# Altium integrated library WCAP-ASNP_rev15a.intlib: 55 symbols (part 1 of 2)
Pins are listed as number, name and electrical type; pins without a type are passive.

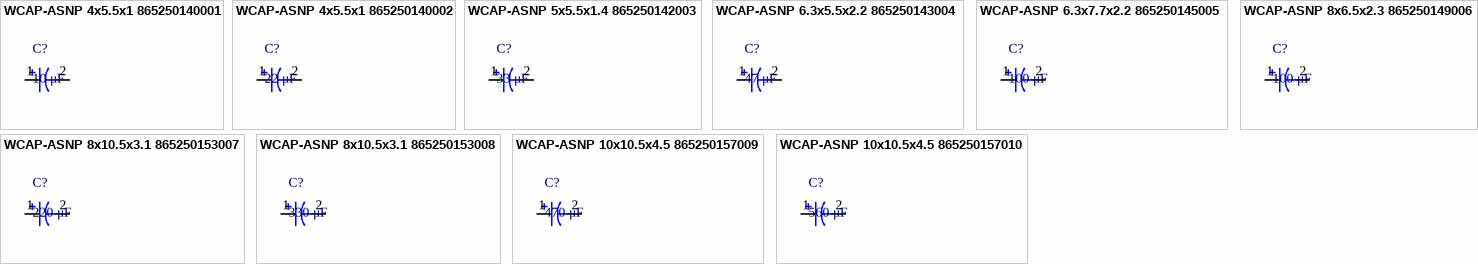
[diagram p0: symbols WCAP-ASNP 4x5.5x1 865250140001 to WCAP-ASNP 10x10.5x4.5 865250157010]

## WCAP-ASNP 4x5.5x1 865250140001
designator C?, comment 10 μF
WCAP-ASNP Aluminum Electrolytic Capacitors , 10 μF; + / - 20%; 6,3 V , 4 x 5,5; Manufacturer: Wurth Elektronik; partNo: 865250140001; E-mail: libraries@we-online.com; Characteristics: Aluminum Electrolytic Capacitor;Recommended soldering: Reflow;Operating temperature: –40 °C to +85 °C;Non-polarized product series with +85 °C max. temperature;Load life: 2000 h @ +85 °C; ComponentLink1Description: Manufacturer; ComponentLink1URL: http://www.we-online.com; ComponentLink2Description: Datasheet; ComponentLink2URL: http://katalog.we-online.de/pbs/datasheet/865250140001.pdf; Created by: Karrer Zheng; Created Date: 5/13/2015; Capacitance: 10 μF; Application: Applied to signal loop with occasional reverse voltage, coupling signal and filtering in circuit. It can be used for signal processing  on TV, audio circuits, digital TV, digital camera, satellite receiver and etc.
footprint WCAP-ASNP 4x5.5x1
pins: 1, 2

## WCAP-ASNP 4x5.5x1 865250140002
designator C?, comment 22 μF
WCAP-ASNP Aluminum Electrolytic Capacitors , 22 μF; + / - 20%; 6,3 V , 4 x 5,5; Manufacturer: Wurth Elektronik; partNo: 865250140002; E-mail: libraries@we-online.com; Characteristics: Aluminum Electrolytic Capacitor;Recommended soldering: Reflow;Operating temperature: –40 °C to +85 °C;Non-polarized product series with +85 °C max. temperature;Load life: 2000 h @ +85 °C; ComponentLink1Description: Manufacturer; ComponentLink1URL: http://www.we-online.com; ComponentLink2Description: Datasheet; ComponentLink2URL: http://katalog.we-online.de/pbs/datasheet/865250140002.pdf; Created by: Karrer Zheng; Created Date: 5/13/2015; Capacitance: 22 μF; Application: Applied to signal loop with occasional reverse voltage, coupling signal and filtering in circuit. It can be used for signal processing  on TV, audio circuits, digital TV, digital camera, satellite receiver and etc.
footprint WCAP-ASNP 4x5.5x1
pins: 1, 2

## WCAP-ASNP 5x5.5x1.4 865250142003
designator C?, comment 33 μF
WCAP-ASNP Aluminum Electrolytic Capacitors , 33 μF; + / - 20%; 6,3 V , 5 x 5,5; Manufacturer: Wurth Elektronik; partNo: 865250142003; E-mail: libraries@we-online.com; Characteristics: Aluminum Electrolytic Capacitor;Recommended soldering: Reflow;Operating temperature: –40 °C to +85 °C;Non-polarized product series with +85 °C max. temperature;Load life: 2000 h @ +85 °C; ComponentLink1Description: Manufacturer; ComponentLink1URL: http://www.we-online.com; ComponentLink2Description: Datasheet; ComponentLink2URL: http://katalog.we-online.de/pbs/datasheet/865250142003.pdf; Created by: Karrer Zheng; Created Date: 5/13/2015; Capacitance: 33 μF; Application: Applied to signal loop with occasional reverse voltage, coupling signal and filtering in circuit. It can be used for signal processing  on TV, audio circuits, digital TV, digital camera, satellite receiver and etc.
footprint WCAP-ASNP 5x5.5x1.4
pins: 1, 2

## WCAP-ASNP 6.3x5.5x2.2 865250143004
designator C?, comment 47 μF
WCAP-ASNP Aluminum Electrolytic Capacitors , 47 μF; + / - 20%; 6,3 V , 6,3 x 5,5; Manufacturer: Wurth Elektronik; partNo: 865250143004; E-mail: libraries@we-online.com; Characteristics: Aluminum Electrolytic Capacitor;Recommended soldering: Reflow;Operating temperature: –40 °C to +85 °C;Non-polarized product series with +85 °C max. temperature;Load life: 2000 h @ +85 °C; ComponentLink1Description: Manufacturer; ComponentLink1URL: http://www.we-online.com; ComponentLink2Description: Datasheet; ComponentLink2URL: http://katalog.we-online.de/pbs/datasheet/865250143004.pdf; Created by: Karrer Zheng; Created Date: 5/13/2015; Capacitance: 47 μF; Application: Applied to signal loop with occasional reverse voltage, coupling signal and filtering in circuit. It can be used for signal processing  on TV, audio circuits, digital TV, digital camera, satellite receiver and etc.
footprint WCAP-ASNP 6.3x5.5x2.2
pins: 1, 2

## WCAP-ASNP 6.3x7.7x2.2 865250145005
designator C?, comment 100 μF
WCAP-ASNP Aluminum Electrolytic Capacitors , 100 μF; + / - 20%; 6,3 V , 6,3 x 7,7; Manufacturer: Wurth Elektronik; partNo: 865250145005; E-mail: libraries@we-online.com; Characteristics: Aluminum Electrolytic Capacitor;Recommended soldering: Reflow;Operating temperature: –40 °C to +85 °C;Non-polarized product series with +85 °C max. temperature;Load life: 2000 h @ +85 °C; ComponentLink1Description: Manufacturer; ComponentLink1URL: http://www.we-online.com; ComponentLink2Description: Datasheet; ComponentLink2URL: http://katalog.we-online.de/pbs/datasheet/865250145005.pdf; Created by: Karrer Zheng; Created Date: 5/13/2015; Capacitance: 100 μF; Application: Applied to signal loop with occasional reverse voltage, coupling signal and filtering in circuit. It can be used for signal processing  on TV, audio circuits, digital TV, digital camera, satellite receiver and etc.
footprint WCAP-ASNP 6.3x7.7x2.2
pins: 1, 2

## WCAP-ASNP 8x6.5x2.3 865250149006
designator C?, comment 100 μF
WCAP-ASNP Aluminum Electrolytic Capacitors , 100 μF; + / - 20%; 6,3 V , 8 x 6,5; Manufacturer: Wurth Elektronik; partNo: 865250149006; E-mail: libraries@we-online.com; Characteristics: Aluminum Electrolytic Capacitor;Recommended soldering: Reflow;Operating temperature: –40 °C to +85 °C;Non-polarized product series with +85 °C max. temperature;Load life: 2000 h @ +85 °C; ComponentLink1Description: Manufacturer; ComponentLink1URL: http://www.we-online.com; ComponentLink2Description: Datasheet; ComponentLink2URL: http://katalog.we-online.de/pbs/datasheet/865250149006.pdf; Created by: Karrer Zheng; Created Date: 5/13/2015; Capacitance: 100 μF; Application: Applied to signal loop with occasional reverse voltage, coupling signal and filtering in circuit. It can be used for signal processing  on TV, audio circuits, digital TV, digital camera, satellite receiver and etc.
footprint WCAP-ASNP 8x6.5x2.3
pins: 1, 2

## WCAP-ASNP 8x10.5x3.1 865250153007
designator C?, comment 220 μF
WCAP-ASNP Aluminum Electrolytic Capacitors , 220 μF; + / - 20%; 6,3 V , 8 x 10,5; Manufacturer: Wurth Elektronik; partNo: 865250153007; E-mail: libraries@we-online.com; Characteristics: Aluminum Electrolytic Capacitor;Recommended soldering: Reflow;Operating temperature: –40 °C to +85 °C;Non-polarized product series with +85 °C max. temperature;Load life: 2000 h @ +85 °C; ComponentLink1Description: Manufacturer; ComponentLink1URL: http://www.we-online.com; ComponentLink2Description: Datasheet; ComponentLink2URL: http://katalog.we-online.de/pbs/datasheet/865250153007.pdf; Created by: Karrer Zheng; Created Date: 5/13/2015; Capacitance: 220 μF; Application: Applied to signal loop with occasional reverse voltage, coupling signal and filtering in circuit. It can be used for signal processing  on TV, audio circuits, digital TV, digital camera, satellite receiver and etc.
footprint WCAP-ASNP 8x10.5x3.1
pins: 1, 2

## WCAP-ASNP 8x10.5x3.1 865250153008
designator C?, comment 330 μF
WCAP-ASNP Aluminum Electrolytic Capacitors , 330 μF; + / - 20%; 6,3 V , 8 x 10,5; Manufacturer: Wurth Elektronik; partNo: 865250153008; E-mail: libraries@we-online.com; Characteristics: Aluminum Electrolytic Capacitor;Recommended soldering: Reflow;Operating temperature: –40 °C to +85 °C;Non-polarized product series with +85 °C max. temperature;Load life: 2000 h @ +85 °C; ComponentLink1Description: Manufacturer; ComponentLink1URL: http://www.we-online.com; ComponentLink2Description: Datasheet; ComponentLink2URL: http://katalog.we-online.de/pbs/datasheet/865250153008.pdf; Created by: Karrer Zheng; Created Date: 5/13/2015; Capacitance: 330 μF; Application: Applied to signal loop with occasional reverse voltage, coupling signal and filtering in circuit. It can be used for signal processing  on TV, audio circuits, digital TV, digital camera, satellite receiver and etc.
footprint WCAP-ASNP 8x10.5x3.1
pins: 1, 2

## WCAP-ASNP 10x10.5x4.5 865250157009
designator C?, comment 470 μF
WCAP-ASNP Aluminum Electrolytic Capacitors , 470 μF; + / - 20%; 6,3 V , 10 x 10,5; Manufacturer: Wurth Elektronik; partNo: 865250157009; E-mail: libraries@we-online.com; Characteristics: Aluminum Electrolytic Capacitor;Recommended soldering: Reflow;Operating temperature: –40 °C to +85 °C;Non-polarized product series with +85 °C max. temperature;Load life: 2000 h @ +85 °C; ComponentLink1Description: Manufacturer; ComponentLink1URL: http://www.we-online.com; ComponentLink2Description: Datasheet; ComponentLink2URL: http://katalog.we-online.de/pbs/datasheet/865250157009.pdf; Created by: Karrer Zheng; Created Date: 5/13/2015; Capacitance: 470 μF; Application: Applied to signal loop with occasional reverse voltage, coupling signal and filtering in circuit. It can be used for signal processing  on TV, audio circuits, digital TV, digital camera, satellite receiver and etc.
footprint WCAP-ASNP 10x10.5x4.5
pins: 1, 2

## WCAP-ASNP 10x10.5x4.5 865250157010
designator C?, comment 560 μF
WCAP-ASNP Aluminum Electrolytic Capacitors , 560 μF; + / - 20%; 6,3 V , 10 x 10,5; Manufacturer: Wurth Elektronik; partNo: 865250157010; E-mail: libraries@we-online.com; Characteristics: Aluminum Electrolytic Capacitor;Recommended soldering: Reflow;Operating temperature: –40 °C to +85 °C;Non-polarized product series with +85 °C max. temperature;Load life: 2000 h @ +85 °C; ComponentLink1Description: Manufacturer; ComponentLink1URL: http://www.we-online.com; ComponentLink2Description: Datasheet; ComponentLink2URL: http://katalog.we-online.de/pbs/datasheet/865250157010.pdf; Created by: Karrer Zheng; Created Date: 5/13/2015; Capacitance: 560 μF; Application: Applied to signal loop with occasional reverse voltage, coupling signal and filtering in circuit. It can be used for signal processing  on TV, audio circuits, digital TV, digital camera, satellite receiver and etc.
footprint WCAP-ASNP 10x10.5x4.5
pins: 1, 2


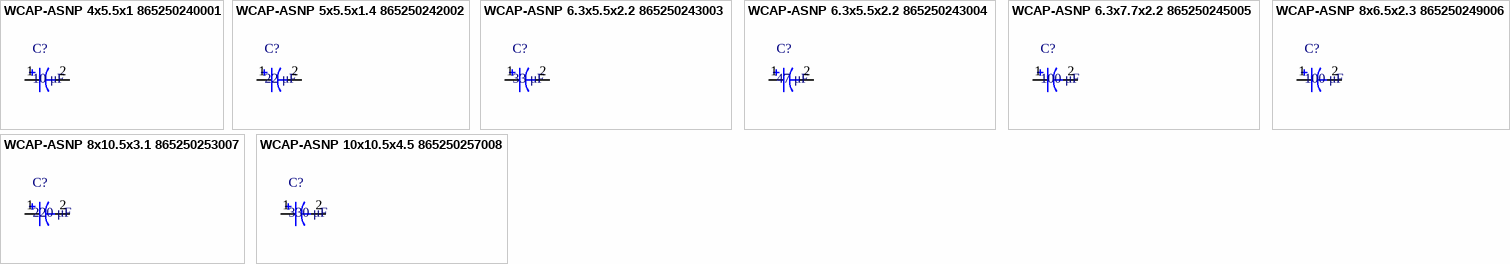
[diagram p1: symbols WCAP-ASNP 4x5.5x1 865250240001 to WCAP-ASNP 10x10.5x4.5 865250257008]

## WCAP-ASNP 4x5.5x1 865250240001
designator C?, comment 10 μF
WCAP-ASNP Aluminum Electrolytic Capacitors , 10 μF; + / - 20%; 10 V , 4 x 5,5; Manufacturer: Wurth Elektronik; partNo: 865250240001; E-mail: libraries@we-online.com; Characteristics: Aluminum Electrolytic Capacitor;Recommended soldering: Reflow;Operating temperature: –40 °C to +85 °C;Non-polarized product series with +85 °C max. temperature;Load life: 2000 h @ +85 °C; ComponentLink1Description: Manufacturer; ComponentLink1URL: http://www.we-online.com; ComponentLink2Description: Datasheet; ComponentLink2URL: http://katalog.we-online.de/pbs/datasheet/865250240001.pdf; Created by: Karrer Zheng; Created Date: 5/13/2015; Capacitance: 10 μF; Application: Applied to signal loop with occasional reverse voltage, coupling signal and filtering in circuit. It can be used for signal processing  on TV, audio circuits, digital TV, digital camera, satellite receiver and etc.
footprint WCAP-ASNP 4x5.5x1
pins: 1, 2

## WCAP-ASNP 5x5.5x1.4 865250242002
designator C?, comment 22 μF
WCAP-ASNP Aluminum Electrolytic Capacitors , 22 μF; + / - 20%; 10 V , 5 x 5,5; Manufacturer: Wurth Elektronik; partNo: 865250242002; E-mail: libraries@we-online.com; Characteristics: Aluminum Electrolytic Capacitor;Recommended soldering: Reflow;Operating temperature: –40 °C to +85 °C;Non-polarized product series with +85 °C max. temperature;Load life: 2000 h @ +85 °C; ComponentLink1Description: Manufacturer; ComponentLink1URL: http://www.we-online.com; ComponentLink2Description: Datasheet; ComponentLink2URL: http://katalog.we-online.de/pbs/datasheet/865250242002.pdf; Created by: Karrer Zheng; Created Date: 5/13/2015; Capacitance: 22 μF; Application: Applied to signal loop with occasional reverse voltage, coupling signal and filtering in circuit. It can be used for signal processing  on TV, audio circuits, digital TV, digital camera, satellite receiver and etc.
footprint WCAP-ASNP 5x5.5x1.4
pins: 1, 2

## WCAP-ASNP 6.3x5.5x2.2 865250243003
designator C?, comment 33 μF
WCAP-ASNP Aluminum Electrolytic Capacitors , 33 μF; + / - 20%; 10 V , 6,3 x 5,5; Manufacturer: Wurth Elektronik; partNo: 865250243003; E-mail: libraries@we-online.com; Characteristics: Aluminum Electrolytic Capacitor;Recommended soldering: Reflow;Operating temperature: –40 °C to +85 °C;Non-polarized product series with +85 °C max. temperature;Load life: 2000 h @ +85 °C; ComponentLink1Description: Manufacturer; ComponentLink1URL: http://www.we-online.com; ComponentLink2Description: Datasheet; ComponentLink2URL: http://katalog.we-online.de/pbs/datasheet/865250243003.pdf; Created by: Karrer Zheng; Created Date: 5/13/2015; Capacitance: 33 μF; Application: Applied to signal loop with occasional reverse voltage, coupling signal and filtering in circuit. It can be used for signal processing  on TV, audio circuits, digital TV, digital camera, satellite receiver and etc.
footprint WCAP-ASNP 6.3x5.5x2.2
pins: 1, 2

## WCAP-ASNP 6.3x5.5x2.2 865250243004
designator C?, comment 47 μF
WCAP-ASNP Aluminum Electrolytic Capacitors , 47 μF; + / - 20%; 10 V , 6,3 x 5,5; Manufacturer: Wurth Elektronik; partNo: 865250243004; E-mail: libraries@we-online.com; Characteristics: Aluminum Electrolytic Capacitor;Recommended soldering: Reflow;Operating temperature: –40 °C to +85 °C;Non-polarized product series with +85 °C max. temperature;Load life: 2000 h @ +85 °C; ComponentLink1Description: Manufacturer; ComponentLink1URL: http://www.we-online.com; ComponentLink2Description: Datasheet; ComponentLink2URL: http://katalog.we-online.de/pbs/datasheet/865250243004.pdf; Created by: Karrer Zheng; Created Date: 5/13/2015; Capacitance: 47 μF; Application: Applied to signal loop with occasional reverse voltage, coupling signal and filtering in circuit. It can be used for signal processing  on TV, audio circuits, digital TV, digital camera, satellite receiver and etc.
footprint WCAP-ASNP 6.3x5.5x2.2
pins: 1, 2

## WCAP-ASNP 6.3x7.7x2.2 865250245005
designator C?, comment 100 μF
WCAP-ASNP Aluminum Electrolytic Capacitors , 100 μF; + / - 20%; 10 V , 6,3 x 7,7; Manufacturer: Wurth Elektronik; partNo: 865250245005; E-mail: libraries@we-online.com; Characteristics: Aluminum Electrolytic Capacitor;Recommended soldering: Reflow;Operating temperature: –40 °C to +85 °C;Non-polarized product series with +85 °C max. temperature;Load life: 2000 h @ +85 °C; ComponentLink1Description: Manufacturer; ComponentLink1URL: http://www.we-online.com; ComponentLink2Description: Datasheet; ComponentLink2URL: http://katalog.we-online.de/pbs/datasheet/865250245005.pdf; Created by: Karrer Zheng; Created Date: 5/13/2015; Capacitance: 100 μF; Application: Applied to signal loop with occasional reverse voltage, coupling signal and filtering in circuit. It can be used for signal processing  on TV, audio circuits, digital TV, digital camera, satellite receiver and etc.
footprint WCAP-ASNP 6.3x7.7x2.2
pins: 1, 2

## WCAP-ASNP 8x6.5x2.3 865250249006
designator C?, comment 100 μF
WCAP-ASNP Aluminum Electrolytic Capacitors , 100 μF; + / - 20%; 10 V , 8 x 6,5; Manufacturer: Wurth Elektronik; partNo: 865250249006; E-mail: libraries@we-online.com; Characteristics: Aluminum Electrolytic Capacitor;Recommended soldering: Reflow;Operating temperature: –40 °C to +85 °C;Non-polarized product series with +85 °C max. temperature;Load life: 2000 h @ +85 °C; ComponentLink1Description: Manufacturer; ComponentLink1URL: http://www.we-online.com; ComponentLink2Description: Datasheet; ComponentLink2URL: http://katalog.we-online.de/pbs/datasheet/865250249006.pdf; Created by: Karrer Zheng; Created Date: 5/13/2015; Capacitance: 100 μF; Application: Applied to signal loop with occasional reverse voltage, coupling signal and filtering in circuit. It can be used for signal processing  on TV, audio circuits, digital TV, digital camera, satellite receiver and etc.
footprint WCAP-ASNP 8x6.5x2.3
pins: 1, 2

## WCAP-ASNP 8x10.5x3.1 865250253007
designator C?, comment 220 μF
WCAP-ASNP Aluminum Electrolytic Capacitors , 220 μF; + / - 20%; 10 V , 8 x 10,5; Manufacturer: Wurth Elektronik; partNo: 865250253007; E-mail: libraries@we-online.com; Characteristics: Aluminum Electrolytic Capacitor;Recommended soldering: Reflow;Operating temperature: –40 °C to +85 °C;Non-polarized product series with +85 °C max. temperature;Load life: 2000 h @ +85 °C; ComponentLink1Description: Manufacturer; ComponentLink1URL: http://www.we-online.com; ComponentLink2Description: Datasheet; ComponentLink2URL: http://katalog.we-online.de/pbs/datasheet/865250253007.pdf; Created by: Karrer Zheng; Created Date: 5/13/2015; Capacitance: 220 μF; Application: Applied to signal loop with occasional reverse voltage, coupling signal and filtering in circuit. It can be used for signal processing  on TV, audio circuits, digital TV, digital camera, satellite receiver and etc.
footprint WCAP-ASNP 8x10.5x3.1
pins: 1, 2

## WCAP-ASNP 10x10.5x4.5 865250257008
designator C?, comment 330 μF
WCAP-ASNP Aluminum Electrolytic Capacitors , 330 μF; + / - 20%; 10 V , 10 x 10,5; Manufacturer: Wurth Elektronik; partNo: 865250257008; E-mail: libraries@we-online.com; Characteristics: Aluminum Electrolytic Capacitor;Recommended soldering: Reflow;Operating temperature: –40 °C to +85 °C;Non-polarized product series with +85 °C max. temperature;Load life: 2000 h @ +85 °C; ComponentLink1Description: Manufacturer; ComponentLink1URL: http://www.we-online.com; ComponentLink2Description: Datasheet; ComponentLink2URL: http://katalog.we-online.de/pbs/datasheet/865250257008.pdf; Created by: Karrer Zheng; Created Date: 5/13/2015; Capacitance: 330 μF; Application: Applied to signal loop with occasional reverse voltage, coupling signal and filtering in circuit. It can be used for signal processing  on TV, audio circuits, digital TV, digital camera, satellite receiver and etc.
footprint WCAP-ASNP 10x10.5x4.5
pins: 1, 2


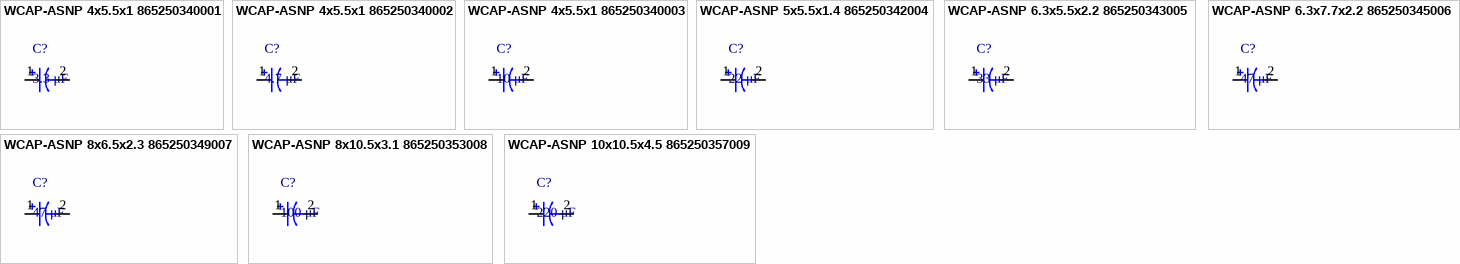
[diagram p2: symbols WCAP-ASNP 4x5.5x1 865250340001 to WCAP-ASNP 10x10.5x4.5 865250357009]

## WCAP-ASNP 4x5.5x1 865250340001
designator C?, comment 3.3 μF
WCAP-ASNP Aluminum Electrolytic Capacitors , 3,3 μF; + / - 20%; 16 V , 4 x 5,5; Manufacturer: Wurth Elektronik; partNo: 865250340001; E-mail: libraries@we-online.com; Characteristics: Aluminum Electrolytic Capacitor;Recommended soldering: Reflow;Operating temperature: –40 °C to +85 °C;Non-polarized product series with +85 °C max. temperature;Load life: 2000 h @ +85 °C; ComponentLink1Description: Manufacturer; ComponentLink1URL: http://www.we-online.com; ComponentLink2Description: Datasheet; ComponentLink2URL: http://katalog.we-online.de/pbs/datasheet/865250340001.pdf; Created by: Karrer Zheng; Created Date: 5/13/2015; Capacitance: 3.3 μF; Application: Applied to signal loop with occasional reverse voltage, coupling signal and filtering in circuit. It can be used for signal processing  on TV, audio circuits, digital TV, digital camera, satellite receiver and etc.
footprint WCAP-ASNP 4x5.5x1
pins: 1, 2

## WCAP-ASNP 4x5.5x1 865250340002
designator C?, comment 4.7 μF
WCAP-ASNP Aluminum Electrolytic Capacitors , 4,7 μF; + / - 20%; 16 V , 4 x 5,5; Manufacturer: Wurth Elektronik; partNo: 865250340002; E-mail: libraries@we-online.com; Characteristics: Aluminum Electrolytic Capacitor;Recommended soldering: Reflow;Operating temperature: –40 °C to +85 °C;Non-polarized product series with +85 °C max. temperature;Load life: 2000 h @ +85 °C; ComponentLink1Description: Manufacturer; ComponentLink1URL: http://www.we-online.com; ComponentLink2Description: Datasheet; ComponentLink2URL: http://katalog.we-online.de/pbs/datasheet/865250340002.pdf; Created by: Karrer Zheng; Created Date: 5/13/2015; Capacitance: 4.7 μF; Application: Applied to signal loop with occasional reverse voltage, coupling signal and filtering in circuit. It can be used for signal processing  on TV, audio circuits, digital TV, digital camera, satellite receiver and etc.
footprint WCAP-ASNP 4x5.5x1
pins: 1, 2

## WCAP-ASNP 4x5.5x1 865250340003
designator C?, comment 10 μF
WCAP-ASNP Aluminum Electrolytic Capacitors , 10 μF; + / - 20%; 16 V , 4 x 5,5; Manufacturer: Wurth Elektronik; partNo: 865250340003; E-mail: libraries@we-online.com; Characteristics: Aluminum Electrolytic Capacitor;Recommended soldering: Reflow;Operating temperature: –40 °C to +85 °C;Non-polarized product series with +85 °C max. temperature;Load life: 2000 h @ +85 °C; ComponentLink1Description: Manufacturer; ComponentLink1URL: http://www.we-online.com; ComponentLink2Description: Datasheet; ComponentLink2URL: http://katalog.we-online.de/pbs/datasheet/865250340003.pdf; Created by: Karrer Zheng; Created Date: 5/13/2015; Capacitance: 10 μF; Application: Applied to signal loop with occasional reverse voltage, coupling signal and filtering in circuit. It can be used for signal processing  on TV, audio circuits, digital TV, digital camera, satellite receiver and etc.
footprint WCAP-ASNP 4x5.5x1
pins: 1, 2

## WCAP-ASNP 5x5.5x1.4 865250342004
designator C?, comment 22 μF
WCAP-ASNP Aluminum Electrolytic Capacitors , 22 μF; + / - 20%; 16 V , 5 x 5,5; Manufacturer: Wurth Elektronik; partNo: 865250342004; E-mail: libraries@we-online.com; Characteristics: Aluminum Electrolytic Capacitor;Recommended soldering: Reflow;Operating temperature: –40 °C to +85 °C;Non-polarized product series with +85 °C max. temperature;Load life: 2000 h @ +85 °C; ComponentLink1Description: Manufacturer; ComponentLink1URL: http://www.we-online.com; ComponentLink2Description: Datasheet; ComponentLink2URL: http://katalog.we-online.de/pbs/datasheet/865250342004.pdf; Created by: Karrer Zheng; Created Date: 5/13/2015; Capacitance: 22 μF; Application: Applied to signal loop with occasional reverse voltage, coupling signal and filtering in circuit. It can be used for signal processing  on TV, audio circuits, digital TV, digital camera, satellite receiver and etc.
footprint WCAP-ASNP 5x5.5x1.4
pins: 1, 2

## WCAP-ASNP 6.3x5.5x2.2 865250343005
designator C?, comment 33 μF
WCAP-ASNP Aluminum Electrolytic Capacitors , 33 μF; + / - 20%; 16 V , 6,3 x 5,5; Manufacturer: Wurth Elektronik; partNo: 865250343005; E-mail: libraries@we-online.com; Characteristics: Aluminum Electrolytic Capacitor;Recommended soldering: Reflow;Operating temperature: –40 °C to +85 °C;Non-polarized product series with +85 °C max. temperature;Load life: 2000 h @ +85 °C; ComponentLink1Description: Manufacturer; ComponentLink1URL: http://www.we-online.com; ComponentLink2Description: Datasheet; ComponentLink2URL: http://katalog.we-online.de/pbs/datasheet/865250343005.pdf; Created by: Karrer Zheng; Created Date: 5/13/2015; Capacitance: 33 μF; Application: Applied to signal loop with occasional reverse voltage, coupling signal and filtering in circuit. It can be used for signal processing  on TV, audio circuits, digital TV, digital camera, satellite receiver and etc.
footprint WCAP-ASNP 6.3x5.5x2.2
pins: 1, 2

## WCAP-ASNP 6.3x7.7x2.2 865250345006
designator C?, comment 47 μF
WCAP-ASNP Aluminum Electrolytic Capacitors , 47 μF; + / - 20%; 16 V , 6,3 x 7,7; Manufacturer: Wurth Elektronik; partNo: 865250345006; E-mail: libraries@we-online.com; Characteristics: Aluminum Electrolytic Capacitor;Recommended soldering: Reflow;Operating temperature: –40 °C to +85 °C;Non-polarized product series with +85 °C max. temperature;Load life: 2000 h @ +85 °C; ComponentLink1Description: Manufacturer; ComponentLink1URL: http://www.we-online.com; ComponentLink2Description: Datasheet; ComponentLink2URL: http://katalog.we-online.de/pbs/datasheet/865250345006.pdf; Created by: Karrer Zheng; Created Date: 5/13/2015; Capacitance: 47 μF; Application: Applied to signal loop with occasional reverse voltage, coupling signal and filtering in circuit. It can be used for signal processing  on TV, audio circuits, digital TV, digital camera, satellite receiver and etc.
footprint WCAP-ASNP 6.3x7.7x2.2
pins: 1, 2

## WCAP-ASNP 8x6.5x2.3 865250349007
designator C?, comment 47 μF
WCAP-ASNP Aluminum Electrolytic Capacitors , 47 μF; + / - 20%; 16 V , 8 x 6,5; Manufacturer: Wurth Elektronik; partNo: 865250349007; E-mail: libraries@we-online.com; Characteristics: Aluminum Electrolytic Capacitor;Recommended soldering: Reflow;Operating temperature: –40 °C to +85 °C;Non-polarized product series with +85 °C max. temperature;Load life: 2000 h @ +85 °C; ComponentLink1Description: Manufacturer; ComponentLink1URL: http://www.we-online.com; ComponentLink2Description: Datasheet; ComponentLink2URL: http://katalog.we-online.de/pbs/datasheet/865250349007.pdf; Created by: Karrer Zheng; Created Date: 5/13/2015; Capacitance: 47 μF; Application: Applied to signal loop with occasional reverse voltage, coupling signal and filtering in circuit. It can be used for signal processing  on TV, audio circuits, digital TV, digital camera, satellite receiver and etc.
footprint WCAP-ASNP 8x6.5x2.3
pins: 1, 2

## WCAP-ASNP 8x10.5x3.1 865250353008
designator C?, comment 100 μF
WCAP-ASNP Aluminum Electrolytic Capacitors , 100 μF; + / - 20%; 16 V , 8 x 10,5; Manufacturer: Wurth Elektronik; partNo: 865250353008; E-mail: libraries@we-online.com; Characteristics: Aluminum Electrolytic Capacitor;Recommended soldering: Reflow;Operating temperature: –40 °C to +85 °C;Non-polarized product series with +85 °C max. temperature;Load life: 2000 h @ +85 °C; ComponentLink1Description: Manufacturer; ComponentLink1URL: http://www.we-online.com; ComponentLink2Description: Datasheet; ComponentLink2URL: http://katalog.we-online.de/pbs/datasheet/865250353008.pdf; Created by: Karrer Zheng; Created Date: 5/13/2015; Capacitance: 100 μF; Application: Applied to signal loop with occasional reverse voltage, coupling signal and filtering in circuit. It can be used for signal processing  on TV, audio circuits, digital TV, digital camera, satellite receiver and etc.
footprint WCAP-ASNP 8x10.5x3.1
pins: 1, 2

## WCAP-ASNP 10x10.5x4.5 865250357009
designator C?, comment 220 μF
WCAP-ASNP Aluminum Electrolytic Capacitors , 220 μF; + / - 20%; 16 V , 10 x 10,5; Manufacturer: Wurth Elektronik; partNo: 865250357009; E-mail: libraries@we-online.com; Characteristics: Aluminum Electrolytic Capacitor;Recommended soldering: Reflow;Operating temperature: –40 °C to +85 °C;Non-polarized product series with +85 °C max. temperature;Load life: 2000 h @ +85 °C; ComponentLink1Description: Manufacturer; ComponentLink1URL: http://www.we-online.com; ComponentLink2Description: Datasheet; ComponentLink2URL: http://katalog.we-online.de/pbs/datasheet/865250357009.pdf; Created by: Karrer Zheng; Created Date: 5/13/2015; Capacitance: 220 μF; Application: Applied to signal loop with occasional reverse voltage, coupling signal and filtering in circuit. It can be used for signal processing  on TV, audio circuits, digital TV, digital camera, satellite receiver and etc.
footprint WCAP-ASNP 10x10.5x4.5
pins: 1, 2


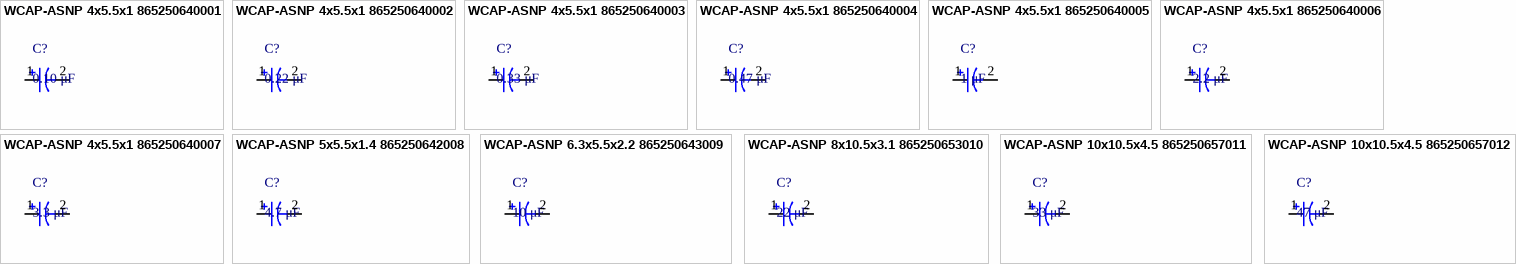
[diagram p3: symbols WCAP-ASNP 4x5.5x1 865250640001 to WCAP-ASNP 10x10.5x4.5 865250657012]

## WCAP-ASNP 4x5.5x1 865250640001
designator C?, comment 0.10 μF
WCAP-ASNP Aluminum Electrolytic Capacitors , 0,10 μF; + / - 20%; 50 V , 4 x 5,5; Manufacturer: Wurth Elektronik; partNo: 865250640001; E-mail: libraries@we-online.com; Characteristics: Aluminum Electrolytic Capacitor;Recommended soldering: Reflow;Operating temperature: –40 °C to +85 °C;Non-polarized product series with +85 °C max. temperature;Load life: 2000 h @ +85 °C; ComponentLink1Description: Manufacturer; ComponentLink1URL: http://www.we-online.com; ComponentLink2Description: Datasheet; ComponentLink2URL: http://katalog.we-online.de/pbs/datasheet/865250640001.pdf; Created by: Karrer Zheng; Created Date: 5/13/2015; Capacitance: 0.10 μF; Application: Applied to signal loop with occasional reverse voltage, coupling signal and filtering in circuit. It can be used for signal processing  on TV, audio circuits, digital TV, digital camera, satellite receiver and etc.
footprint WCAP-ASNP 4x5.5x1
pins: 1, 2

## WCAP-ASNP 4x5.5x1 865250640002
designator C?, comment 0.22 μF
WCAP-ASNP Aluminum Electrolytic Capacitors , 0,22 μF; + / - 20%; 50 V , 4 x 5,5; Manufacturer: Wurth Elektronik; partNo: 865250640002; E-mail: libraries@we-online.com; Characteristics: Aluminum Electrolytic Capacitor;Recommended soldering: Reflow;Operating temperature: –40 °C to +85 °C;Non-polarized product series with +85 °C max. temperature;Load life: 2000 h @ +85 °C; ComponentLink1Description: Manufacturer; ComponentLink1URL: http://www.we-online.com; ComponentLink2Description: Datasheet; ComponentLink2URL: http://katalog.we-online.de/pbs/datasheet/865250640002.pdf; Created by: Karrer Zheng; Created Date: 5/13/2015; Capacitance: 0.22 μF; Application: Applied to signal loop with occasional reverse voltage, coupling signal and filtering in circuit. It can be used for signal processing  on TV, audio circuits, digital TV, digital camera, satellite receiver and etc.
footprint WCAP-ASNP 4x5.5x1
pins: 1, 2

## WCAP-ASNP 4x5.5x1 865250640003
designator C?, comment 0.33 μF
WCAP-ASNP Aluminum Electrolytic Capacitors , 0,33 μF; + / - 20%; 50 V , 4 x 5,5; Manufacturer: Wurth Elektronik; partNo: 865250640003; E-mail: libraries@we-online.com; Characteristics: Aluminum Electrolytic Capacitor;Recommended soldering: Reflow;Operating temperature: –40 °C to +85 °C;Non-polarized product series with +85 °C max. temperature;Load life: 2000 h @ +85 °C; ComponentLink1Description: Manufacturer; ComponentLink1URL: http://www.we-online.com; ComponentLink2Description: Datasheet; ComponentLink2URL: http://katalog.we-online.de/pbs/datasheet/865250640003.pdf; Created by: Karrer Zheng; Created Date: 5/13/2015; Capacitance: 0.33 μF; Application: Applied to signal loop with occasional reverse voltage, coupling signal and filtering in circuit. It can be used for signal processing  on TV, audio circuits, digital TV, digital camera, satellite receiver and etc.
footprint WCAP-ASNP 4x5.5x1
pins: 1, 2

## WCAP-ASNP 4x5.5x1 865250640004
designator C?, comment 0.47 μF
WCAP-ASNP Aluminum Electrolytic Capacitors , 0,47 μF; + / - 20%; 50 V , 4 x 5,5; Manufacturer: Wurth Elektronik; partNo: 865250640004; E-mail: libraries@we-online.com; Characteristics: Aluminum Electrolytic Capacitor;Recommended soldering: Reflow;Operating temperature: –40 °C to +85 °C;Non-polarized product series with +85 °C max. temperature;Load life: 2000 h @ +85 °C; ComponentLink1Description: Manufacturer; ComponentLink1URL: http://www.we-online.com; ComponentLink2Description: Datasheet; ComponentLink2URL: http://katalog.we-online.de/pbs/datasheet/865250640004.pdf; Created by: Karrer Zheng; Created Date: 5/13/2015; Capacitance: 0.47 μF; Application: Applied to signal loop with occasional reverse voltage, coupling signal and filtering in circuit. It can be used for signal processing  on TV, audio circuits, digital TV, digital camera, satellite receiver and etc.
footprint WCAP-ASNP 4x5.5x1
pins: 1, 2

## WCAP-ASNP 4x5.5x1 865250640005
designator C?, comment 1 μF
WCAP-ASNP Aluminum Electrolytic Capacitors , 1 μF; + / - 20%; 50 V , 4 x 5,5; Manufacturer: Wurth Elektronik; partNo: 865250640005; E-mail: libraries@we-online.com; Characteristics: Aluminum Electrolytic Capacitor;Recommended soldering: Reflow;Operating temperature: –40 °C to +85 °C;Non-polarized product series with +85 °C max. temperature;Load life: 2000 h @ +85 °C; ComponentLink1Description: Manufacturer; ComponentLink1URL: http://www.we-online.com; ComponentLink2Description: Datasheet; ComponentLink2URL: http://katalog.we-online.de/pbs/datasheet/865250640005.pdf; Created by: Karrer Zheng; Created Date: 5/13/2015; Capacitance: 1 μF; Application: Applied to signal loop with occasional reverse voltage, coupling signal and filtering in circuit. It can be used for signal processing  on TV, audio circuits, digital TV, digital camera, satellite receiver and etc.
footprint WCAP-ASNP 4x5.5x1
pins: 1, 2

## WCAP-ASNP 4x5.5x1 865250640006
designator C?, comment 2.2 μF
WCAP-ASNP Aluminum Electrolytic Capacitors , 2,2 μF; + / - 20%; 50 V , 4 x 5,5; Manufacturer: Wurth Elektronik; partNo: 865250640006; E-mail: libraries@we-online.com; Characteristics: Aluminum Electrolytic Capacitor;Recommended soldering: Reflow;Operating temperature: –40 °C to +85 °C;Non-polarized product series with +85 °C max. temperature;Load life: 2000 h @ +85 °C; ComponentLink1Description: Manufacturer; ComponentLink1URL: http://www.we-online.com; ComponentLink2Description: Datasheet; ComponentLink2URL: http://katalog.we-online.de/pbs/datasheet/865250640006.pdf; Created by: Karrer Zheng; Created Date: 5/13/2015; Capacitance: 2.2 μF; Application: Applied to signal loop with occasional reverse voltage, coupling signal and filtering in circuit. It can be used for signal processing  on TV, audio circuits, digital TV, digital camera, satellite receiver and etc.
footprint WCAP-ASNP 4x5.5x1
pins: 1, 2

## WCAP-ASNP 4x5.5x1 865250640007
designator C?, comment 3.3 μF
WCAP-ASNP Aluminum Electrolytic Capacitors , 3,3 μF; + / - 20%; 50 V , 4 x 5,5; Manufacturer: Wurth Elektronik; partNo: 865250640007; E-mail: libraries@we-online.com; Characteristics: Aluminum Electrolytic Capacitor;Recommended soldering: Reflow;Operating temperature: –40 °C to +85 °C;Non-polarized product series with +85 °C max. temperature;Load life: 2000 h @ +85 °C; ComponentLink1Description: Manufacturer; ComponentLink1URL: http://www.we-online.com; ComponentLink2Description: Datasheet; ComponentLink2URL: http://katalog.we-online.de/pbs/datasheet/865250640007.pdf; Created by: Karrer Zheng; Created Date: 5/13/2015; Capacitance: 3.3 μF; Application: Applied to signal loop with occasional reverse voltage, coupling signal and filtering in circuit. It can be used for signal processing  on TV, audio circuits, digital TV, digital camera, satellite receiver and etc.
footprint WCAP-ASNP 4x5.5x1
pins: 1, 2

## WCAP-ASNP 5x5.5x1.4 865250642008
designator C?, comment 4.7 μF
WCAP-ASNP Aluminum Electrolytic Capacitors , 4,7 μF; + / - 20%; 50 V , 5 x 5,5; Manufacturer: Wurth Elektronik; partNo: 865250642008; E-mail: libraries@we-online.com; Characteristics: Aluminum Electrolytic Capacitor;Recommended soldering: Reflow;Operating temperature: –40 °C to +85 °C;Non-polarized product series with +85 °C max. temperature;Load life: 2000 h @ +85 °C; ComponentLink1Description: Manufacturer; ComponentLink1URL: http://www.we-online.com; ComponentLink2Description: Datasheet; ComponentLink2URL: http://katalog.we-online.de/pbs/datasheet/865250642008.pdf; Created by: Karrer Zheng; Created Date: 5/13/2015; Capacitance: 4.7 μF; Application: Applied to signal loop with occasional reverse voltage, coupling signal and filtering in circuit. It can be used for signal processing  on TV, audio circuits, digital TV, digital camera, satellite receiver and etc.
footprint WCAP-ASNP 5x5.5x1.4
pins: 1, 2

## WCAP-ASNP 6.3x5.5x2.2 865250643009
designator C?, comment 10 μF
WCAP-ASNP Aluminum Electrolytic Capacitors , 10 μF; + / - 20%; 50 V , 6,3 x 5,5; Manufacturer: Wurth Elektronik; partNo: 865250643009; E-mail: libraries@we-online.com; Characteristics: Aluminum Electrolytic Capacitor;Recommended soldering: Reflow;Operating temperature: –40 °C to +85 °C;Non-polarized product series with +85 °C max. temperature;Load life: 2000 h @ +85 °C; ComponentLink1Description: Manufacturer; ComponentLink1URL: http://www.we-online.com; ComponentLink2Description: Datasheet; ComponentLink2URL: http://katalog.we-online.de/pbs/datasheet/865250643009.pdf; Created by: Karrer Zheng; Created Date: 5/13/2015; Capacitance: 10 μF; Application: Applied to signal loop with occasional reverse voltage, coupling signal and filtering in circuit. It can be used for signal processing  on TV, audio circuits, digital TV, digital camera, satellite receiver and etc.
footprint WCAP-ASNP 6.3x5.5x2.2
pins: 1, 2

## WCAP-ASNP 8x10.5x3.1 865250653010
designator C?, comment 22 μF
WCAP-ASNP Aluminum Electrolytic Capacitors , 22 μF; + / - 20%; 50 V , 8 x 10,5; Manufacturer: Wurth Elektronik; partNo: 865250653010; E-mail: libraries@we-online.com; Characteristics: Aluminum Electrolytic Capacitor;Recommended soldering: Reflow;Operating temperature: –40 °C to +85 °C;Non-polarized product series with +85 °C max. temperature;Load life: 2000 h @ +85 °C; ComponentLink1Description: Manufacturer; ComponentLink1URL: http://www.we-online.com; ComponentLink2Description: Datasheet; ComponentLink2URL: http://katalog.we-online.de/pbs/datasheet/865250653010.pdf; Created by: Karrer Zheng; Created Date: 5/13/2015; Capacitance: 22 μF; Application: Applied to signal loop with occasional reverse voltage, coupling signal and filtering in circuit. It can be used for signal processing  on TV, audio circuits, digital TV, digital camera, satellite receiver and etc.
footprint WCAP-ASNP 8x10.5x3.1
pins: 1, 2

## WCAP-ASNP 10x10.5x4.5 865250657011
designator C?, comment 33 μF
WCAP-ASNP Aluminum Electrolytic Capacitors , 33 μF; + / - 20%; 50 V , 10 x 10,5; Manufacturer: Wurth Elektronik; partNo: 865250657011; E-mail: libraries@we-online.com; Characteristics: Aluminum Electrolytic Capacitor;Recommended soldering: Reflow;Operating temperature: –40 °C to +85 °C;Non-polarized product series with +85 °C max. temperature;Load life: 2000 h @ +85 °C; ComponentLink1Description: Manufacturer; ComponentLink1URL: http://www.we-online.com; ComponentLink2Description: Datasheet; ComponentLink2URL: http://katalog.we-online.de/pbs/datasheet/865250657011.pdf; Created by: Karrer Zheng; Created Date: 5/13/2015; Capacitance: 33 μF; Application: Applied to signal loop with occasional reverse voltage, coupling signal and filtering in circuit. It can be used for signal processing  on TV, audio circuits, digital TV, digital camera, satellite receiver and etc.
footprint WCAP-ASNP 10x10.5x4.5
pins: 1, 2

## WCAP-ASNP 10x10.5x4.5 865250657012
designator C?, comment 47 μF
WCAP-ASNP Aluminum Electrolytic Capacitors , 47 μF; + / - 20%; 50 V , 10 x 10,5; Manufacturer: Wurth Elektronik; partNo: 865250657012; E-mail: libraries@we-online.com; Characteristics: Aluminum Electrolytic Capacitor;Recommended soldering: Reflow;Operating temperature: –40 °C to +85 °C;Non-polarized product series with +85 °C max. temperature;Load life: 2000 h @ +85 °C; ComponentLink1Description: Manufacturer; ComponentLink1URL: http://www.we-online.com; ComponentLink2Description: Datasheet; ComponentLink2URL: http://katalog.we-online.de/pbs/datasheet/865250657012.pdf; Created by: Karrer Zheng; Created Date: 5/13/2015; Capacitance: 47 μF; Application: Applied to signal loop with occasional reverse voltage, coupling signal and filtering in circuit. It can be used for signal processing  on TV, audio circuits, digital TV, digital camera, satellite receiver and etc.
footprint WCAP-ASNP 10x10.5x4.5
pins: 1, 2


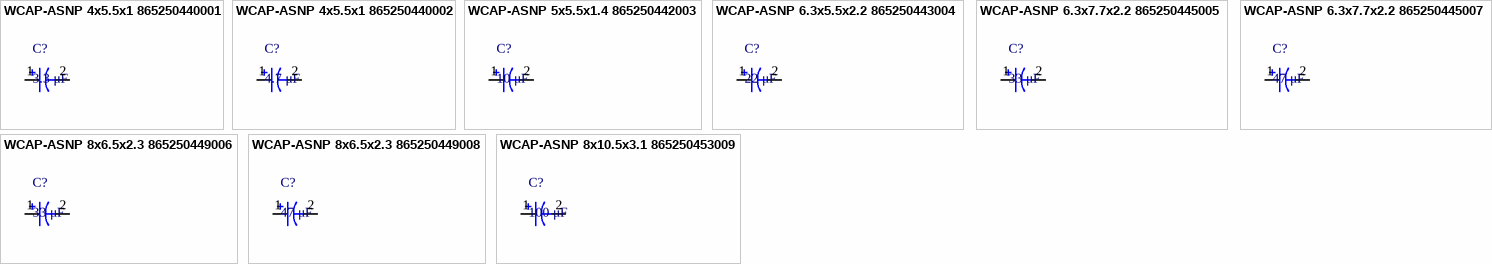
[diagram p4: symbols WCAP-ASNP 4x5.5x1 865250440001 to WCAP-ASNP 8x10.5x3.1 865250453009]

## WCAP-ASNP 4x5.5x1 865250440001
designator C?, comment 3.3 μF
WCAP-ASNP Aluminum Electrolytic Capacitors , 3,3 μF; + / - 20%; 25 V , 4 x 5,5; Manufacturer: Wurth Elektronik; partNo: 865250440001; E-mail: libraries@we-online.com; Characteristics: Aluminum Electrolytic Capacitor;Recommended soldering: Reflow;Operating temperature: –40 °C to +85 °C;Non-polarized product series with +85 °C max. temperature;Load life: 2000 h @ +85 °C; ComponentLink1Description: Manufacturer; ComponentLink1URL: http://www.we-online.com; ComponentLink2Description: Datasheet; ComponentLink2URL: http://katalog.we-online.de/pbs/datasheet/865250440001.pdf; Created by: Karrer Zheng; Created Date: 5/13/2015; Capacitance: 3.3 μF; Application: Applied to signal loop with occasional reverse voltage, coupling signal and filtering in circuit. It can be used for signal processing  on TV, audio circuits, digital TV, digital camera, satellite receiver and etc.
footprint WCAP-ASNP 4x5.5x1
pins: 1, 2

## WCAP-ASNP 4x5.5x1 865250440002
designator C?, comment 4.7 μF
WCAP-ASNP Aluminum Electrolytic Capacitors , 4,7 μF; + / - 20%; 25 V , 4 x 5,5; Manufacturer: Wurth Elektronik; partNo: 865250440002; E-mail: libraries@we-online.com; Characteristics: Aluminum Electrolytic Capacitor;Recommended soldering: Reflow;Operating temperature: –40 °C to +85 °C;Non-polarized product series with +85 °C max. temperature;Load life: 2000 h @ +85 °C; ComponentLink1Description: Manufacturer; ComponentLink1URL: http://www.we-online.com; ComponentLink2Description: Datasheet; ComponentLink2URL: http://katalog.we-online.de/pbs/datasheet/865250440002.pdf; Created by: Karrer Zheng; Created Date: 5/13/2015; Capacitance: 4.7 μF; Application: Applied to signal loop with occasional reverse voltage, coupling signal and filtering in circuit. It can be used for signal processing  on TV, audio circuits, digital TV, digital camera, satellite receiver and etc.
footprint WCAP-ASNP 4x5.5x1
pins: 1, 2

## WCAP-ASNP 5x5.5x1.4 865250442003
designator C?, comment 10 μF
WCAP-ASNP Aluminum Electrolytic Capacitors , 10 μF; + / - 20%; 25 V , 5 x 5,5; Manufacturer: Wurth Elektronik; partNo: 865250442003; E-mail: libraries@we-online.com; Characteristics: Aluminum Electrolytic Capacitor;Recommended soldering: Reflow;Operating temperature: –40 °C to +85 °C;Non-polarized product series with +85 °C max. temperature;Load life: 2000 h @ +85 °C; ComponentLink1Description: Manufacturer; ComponentLink1URL: http://www.we-online.com; ComponentLink2Description: Datasheet; ComponentLink2URL: http://katalog.we-online.de/pbs/datasheet/865250442003.pdf; Created by: Karrer Zheng; Created Date: 5/13/2015; Capacitance: 10 μF; Application: Applied to signal loop with occasional reverse voltage, coupling signal and filtering in circuit. It can be used for signal processing  on TV, audio circuits, digital TV, digital camera, satellite receiver and etc.
footprint WCAP-ASNP 5x5.5x1.4
pins: 1, 2

## WCAP-ASNP 6.3x5.5x2.2 865250443004
designator C?, comment 22 μF
WCAP-ASNP Aluminum Electrolytic Capacitors , 22 μF; + / - 20%; 25 V , 6,3 x 5,5; Manufacturer: Wurth Elektronik; partNo: 865250443004; E-mail: libraries@we-online.com; Characteristics: Aluminum Electrolytic Capacitor;Recommended soldering: Reflow;Operating temperature: –40 °C to +85 °C;Non-polarized product series with +85 °C max. temperature;Load life: 2000 h @ +85 °C; ComponentLink1Description: Manufacturer; ComponentLink1URL: http://www.we-online.com; ComponentLink2Description: Datasheet; ComponentLink2URL: http://katalog.we-online.de/pbs/datasheet/865250443004.pdf; Created by: Karrer Zheng; Created Date: 5/13/2015; Capacitance: 22 μF; Application: Applied to signal loop with occasional reverse voltage, coupling signal and filtering in circuit. It can be used for signal processing  on TV, audio circuits, digital TV, digital camera, satellite receiver and etc.
footprint WCAP-ASNP 6.3x5.5x2.2
pins: 1, 2

## WCAP-ASNP 6.3x7.7x2.2 865250445005
designator C?, comment 33 μF
WCAP-ASNP Aluminum Electrolytic Capacitors , 33 μF; + / - 20%; 25 V , 6,3 x 7,7; Manufacturer: Wurth Elektronik; partNo: 865250445005; E-mail: libraries@we-online.com; Characteristics: Aluminum Electrolytic Capacitor;Recommended soldering: Reflow;Operating temperature: –40 °C to +85 °C;Non-polarized product series with +85 °C max. temperature;Load life: 2000 h @ +85 °C; ComponentLink1Description: Manufacturer; ComponentLink1URL: http://www.we-online.com; ComponentLink2Description: Datasheet; ComponentLink2URL: http://katalog.we-online.de/pbs/datasheet/865250445005.pdf; Created by: Karrer Zheng; Created Date: 5/13/2015; Capacitance: 33 μF; Application: Applied to signal loop with occasional reverse voltage, coupling signal and filtering in circuit. It can be used for signal processing  on TV, audio circuits, digital TV, digital camera, satellite receiver and etc.
footprint WCAP-ASNP 6.3x7.7x2.2
pins: 1, 2

## WCAP-ASNP 6.3x7.7x2.2 865250445007
designator C?, comment 47 μF
WCAP-ASNP Aluminum Electrolytic Capacitors , 47 μF; + / - 20%; 25 V , 6,3 x 7,7; Manufacturer: Wurth Elektronik; partNo: 865250445007; E-mail: libraries@we-online.com; Characteristics: Aluminum Electrolytic Capacitor;Recommended soldering: Reflow;Operating temperature: –40 °C to +85 °C;Non-polarized product series with +85 °C max. temperature;Load life: 2000 h @ +85 °C; ComponentLink1Description: Manufacturer; ComponentLink1URL: http://www.we-online.com; ComponentLink2Description: Datasheet; ComponentLink2URL: http://katalog.we-online.de/pbs/datasheet/865250445007.pdf; Created by: Karrer Zheng; Created Date: 5/13/2015; Capacitance: 47 μF; Application: Applied to signal loop with occasional reverse voltage, coupling signal and filtering in circuit. It can be used for signal processing  on TV, audio circuits, digital TV, digital camera, satellite receiver and etc.
footprint WCAP-ASNP 6.3x7.7x2.2
pins: 1, 2

## WCAP-ASNP 8x6.5x2.3 865250449006
designator C?, comment 33 μF
WCAP-ASNP Aluminum Electrolytic Capacitors , 33 μF; + / - 20%; 25 V , 8 x 6,5; Manufacturer: Wurth Elektronik; partNo: 865250449006; E-mail: libraries@we-online.com; Characteristics: Aluminum Electrolytic Capacitor;Recommended soldering: Reflow;Operating temperature: –40 °C to +85 °C;Non-polarized product series with +85 °C max. temperature;Load life: 2000 h @ +85 °C; ComponentLink1Description: Manufacturer; ComponentLink1URL: http://www.we-online.com; ComponentLink2Description: Datasheet; ComponentLink2URL: http://katalog.we-online.de/pbs/datasheet/865250449006.pdf; Created by: Karrer Zheng; Created Date: 5/13/2015; Capacitance: 33 μF; Application: Applied to signal loop with occasional reverse voltage, coupling signal and filtering in circuit. It can be used for signal processing  on TV, audio circuits, digital TV, digital camera, satellite receiver and etc.
footprint WCAP-ASNP 8x6.5x2.3
pins: 1, 2

## WCAP-ASNP 8x6.5x2.3 865250449008
designator C?, comment 47 μF
WCAP-ASNP Aluminum Electrolytic Capacitors , 47 μF; + / - 20%; 25 V , 8 x 6,5; Manufacturer: Wurth Elektronik; partNo: 865250449008; E-mail: libraries@we-online.com; Characteristics: Aluminum Electrolytic Capacitor;Recommended soldering: Reflow;Operating temperature: –40 °C to +85 °C;Non-polarized product series with +85 °C max. temperature;Load life: 2000 h @ +85 °C; ComponentLink1Description: Manufacturer; ComponentLink1URL: http://www.we-online.com; ComponentLink2Description: Datasheet; ComponentLink2URL: http://katalog.we-online.de/pbs/datasheet/865250449008.pdf; Created by: Karrer Zheng; Created Date: 5/13/2015; Capacitance: 47 μF; Application: Applied to signal loop with occasional reverse voltage, coupling signal and filtering in circuit. It can be used for signal processing  on TV, audio circuits, digital TV, digital camera, satellite receiver and etc.
footprint WCAP-ASNP 8x6.5x2.3
pins: 1, 2

## WCAP-ASNP 8x10.5x3.1 865250453009
designator C?, comment 100 μF
WCAP-ASNP Aluminum Electrolytic Capacitors , 100 μF; + / - 20%; 25 V , 8 x 10,5; Manufacturer: Wurth Elektronik; partNo: 865250453009; E-mail: libraries@we-online.com; Characteristics: Aluminum Electrolytic Capacitor;Recommended soldering: Reflow;Operating temperature: –40 °C to +85 °C;Non-polarized product series with +85 °C max. temperature;Load life: 2000 h @ +85 °C; ComponentLink1Description: Manufacturer; ComponentLink1URL: http://www.we-online.com; ComponentLink2Description: Datasheet; ComponentLink2URL: http://katalog.we-online.de/pbs/datasheet/865250453009.pdf; Created by: Karrer Zheng; Created Date: 5/13/2015; Capacitance: 100 μF; Application: Applied to signal loop with occasional reverse voltage, coupling signal and filtering in circuit. It can be used for signal processing  on TV, audio circuits, digital TV, digital camera, satellite receiver and etc.
footprint WCAP-ASNP 8x10.5x3.1
pins: 1, 2


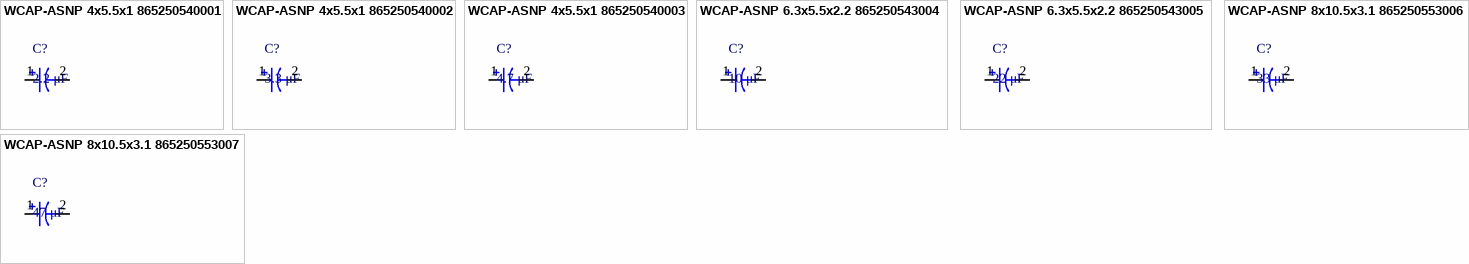
[diagram p5: symbols WCAP-ASNP 4x5.5x1 865250540001 to WCAP-ASNP 8x10.5x3.1 865250553007]

## WCAP-ASNP 4x5.5x1 865250540001
designator C?, comment 2.2 μF
WCAP-ASNP Aluminum Electrolytic Capacitors , 2,2 μF; + / - 20%; 35 V , 4 x 5,5; Manufacturer: Wurth Elektronik; partNo: 865250540001; E-mail: libraries@we-online.com; Characteristics: Aluminum Electrolytic Capacitor;Recommended soldering: Reflow;Operating temperature: –40 °C to +85 °C;Non-polarized product series with +85 °C max. temperature;Load life: 2000 h @ +85 °C; ComponentLink1Description: Manufacturer; ComponentLink1URL: http://www.we-online.com; ComponentLink2Description: Datasheet; ComponentLink2URL: http://katalog.we-online.de/pbs/datasheet/865250540001.pdf; Created by: Karrer Zheng; Created Date: 5/13/2015; Capacitance: 2.2 μF; Application: Applied to signal loop with occasional reverse voltage, coupling signal and filtering in circuit. It can be used for signal processing  on TV, audio circuits, digital TV, digital camera, satellite receiver and etc.
footprint WCAP-ASNP 4x5.5x1
pins: 1, 2

## WCAP-ASNP 4x5.5x1 865250540002
designator C?, comment 3.3 μF
WCAP-ASNP Aluminum Electrolytic Capacitors , 3,3 μF; + / - 20%; 35 V , 4 x 5,5; Manufacturer: Wurth Elektronik; partNo: 865250540002; E-mail: libraries@we-online.com; Characteristics: Aluminum Electrolytic Capacitor;Recommended soldering: Reflow;Operating temperature: –40 °C to +85 °C;Non-polarized product series with +85 °C max. temperature;Load life: 2000 h @ +85 °C; ComponentLink1Description: Manufacturer; ComponentLink1URL: http://www.we-online.com; ComponentLink2Description: Datasheet; ComponentLink2URL: http://katalog.we-online.de/pbs/datasheet/865250540002.pdf; Created by: Karrer Zheng; Created Date: 5/13/2015; Capacitance: 3.3 μF; Application: Applied to signal loop with occasional reverse voltage, coupling signal and filtering in circuit. It can be used for signal processing  on TV, audio circuits, digital TV, digital camera, satellite receiver and etc.
footprint WCAP-ASNP 4x5.5x1
pins: 1, 2